# Altium schematic symbol library DS90LV028AQDQFRQ1.SchLib: 1 symbol
Pins are listed as number, name and electrical type; pins without a type are passive.

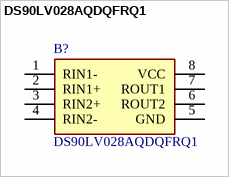
[diagram p0: symbol DS90LV028AQDQFRQ1]

## DS90LV028AQDQFRQ1
designator B?
LVDS Driver 5-Pin SOT-23 T/R; Manufacturer_Name: Texas Instruments; Geometry.Height: 0.8mm; Mouser Part Number: 595-S90LV028AQDQFRQ1; Mouser Price/Stock: https://www.mouser.co.uk/ProductDetail/Texas-Instruments/DS90LV028AQDQFRQ1?qs=BJlw7L4Cy79pzlV0%2FL5zww%3D%3D; Manufacturer_Part_Number: DS90LV028AQDQFRQ1; Datasheet Link: https://www.ti.com/lit/ds/symlink/ds90lv028a-q1.pdf?ts=1621932347476&ref_url=https%253A%252F%252Fwww.ti.com%252Fstore%252Fti%252Fen%252Fp%252Fproduct%252F%253Fp%253DDS90LV028AQDQFRQ1
footprint SON50P200X200X80-8N
pins: 1 RIN1-, 2 RIN1+, 3 RIN2+, 4 RIN2-, 5 GND, 6 ROUT2, 7 ROUT1, 8 VCC